# EAGLE library part PINHDR-2X6 (library pmodio)
PIN HEADER
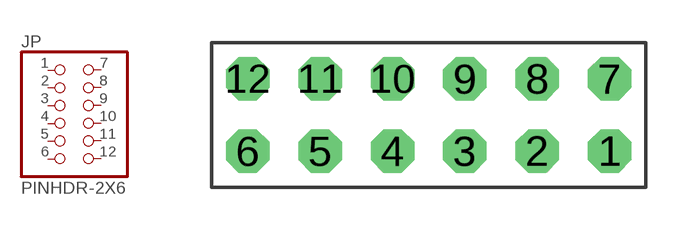
[diagram p1: symbol with the pads of 2X06/90; footprint 2X06/90]

Designator prefix JP

## PINHDR-2X6/90  [2X06/90]
1  1  pas
2  2  pas
3  3  pas
4  4  pas
5  5  pas
6  6  pas
7  7  pas
8  8  pas
9  9  pas
10  10  pas
11  11  pas
12  12  pas

## Footprint 2X06/90 (pad centres in mm)
PIN HEADER
drill 1.016 octagon: 1 6.35,-6.35; 2 3.81,-6.35; 3 1.27,-6.35; 4 -1.27,-6.35; 5 -3.81,-6.35; 6 -6.35,-6.35; 7 6.35,-3.81; 8 3.81,-3.81; 9 1.27,-3.81; 10 -1.27,-3.81; 11 -3.81,-3.81; 12 -6.35,-3.81